# Altium footprint library E33-VT610-M01T.PcbLib: 1 footprints
Each footprint in its own frame and in the unit in brackets; x right, y up, seen from the top. Pads: shape width x height; smd on the part's side, far side on the other; paste and mask are expansions set on the pad; w line width, h text height; cw(c..) or ccw(c..) is an arc to the next point about the centre after c.
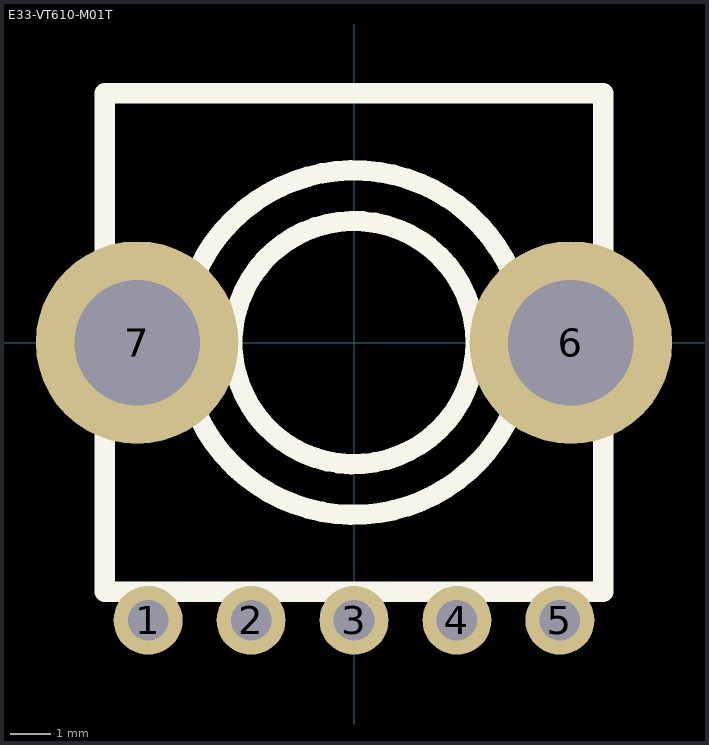
[diagram p0: the footprint, top view; thin cyan lines are the x and y axes]

## E33-VT610-M01T [mm]
pads (7):
  round 1.7 hole 1: 1(-5.08,-6.85) 2(-2.54,-6.85) 3(0,-6.85) 4(2.54,-6.85) 5(5.08,-6.85)
  round 5 hole 3.1: 6(5.35,0) 7(-5.35,0)
Top Overlay:
  circle w0.5: c0,0 r3
  circle w0.5: c0,0 r4.25
  lines w0.5: -6.15,-6.15 6.15,-6.15 6.15,6.15 -6.15,6.15 -6.15,-6.15